# Altium integrated library 1N4007RL.IntLib: 1 symbol
Pins are listed as number, name and electrical type; pins without a type are passive.

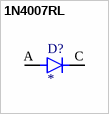
[diagram p0: symbol 1N4007RL]

## 1N4007RL
designator D?
Diode Standard 1000 V 1A Through Hole Axial; MP: 1N4007RL; MF: ON Semiconductor; Availability: In Stock; Purchase-URL: https://pricing.snapeda.com/search/part/1N4007RL/?ref=eda; Package: DO-41-2 ON Semiconductor; Value: *; Check_prices: https://www.snapeda.com/parts/1N4007RL/Onsemi/view-part/?ref=eda; SnapEDA_Link: https://www.snapeda.com/parts/1N4007RL/Onsemi/view-part/?ref=snap; Price: None
footprint DIOAD1060W80L520D270
pins: A, C